# Altium integrated library BAT760.IntLib: 1 symbol
Pins are listed as number, name and electrical type; pins without a type are passive.

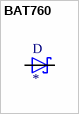
[diagram p0: symbol BAT760]

## BAT760
designator D
Diode Schottky 20V 1A _DC_ Surface Mount SOD-323; MP: BAT760; MF: Nexperia USA; Price: None; Package: SOD-323 NXP Semiconductors; Value: *; Availability: Unavailable; SnapEDA_Link: https://www.snapeda.com/parts/BAT760/Nexperia%20USA%20Inc./view-part/182736/?ref=snap
footprint SOD323(F)
pins: 1 K, 2 A